# Altium footprint library STLink_V2.PcbLib: 5 footprints
Each footprint in its own frame and in the unit in brackets; x right, y up, seen from the top. Pads: shape width x height; smd on the part's side, far side on the other; paste and mask are expansions set on the pad; w line width, h text height; cw(c..) or ccw(c..) is an arc to the next point about the centre after c.
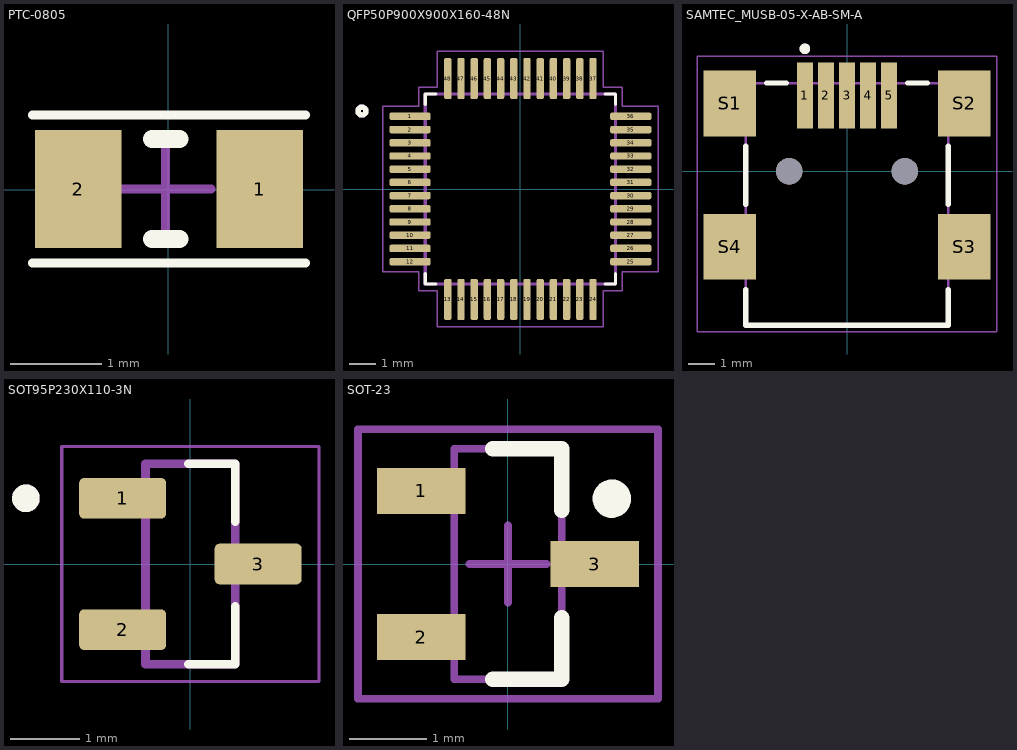
[diagram p0: the footprints below, top view; thin cyan lines are the x and y axes]

## PTC-0805 [mm]
pads (2):
  rect 0.95x1.3 smd: 1(1.008,0.009) 2(-0.992,0.009)
Top Overlay:
  lines w0.1: -1.492,-0.804 1.508,-0.804 ; -1.492,0.822 1.508,0.822
  lines w0.2: -0.18,-0.541 0.12,-0.541 ; -0.18,0.559 0.12,0.559
Mechanical 15:
  lines w0.1: -0.53,0.009 0.47,0.009 ; -0.03,-0.491 -0.03,0.509
3D body "Part2.SLDPRT": height 0.66, standoff 0, extent -1.075,-0.675 1.075,0.675

## QFP50P900X900X160-48N [mm]
pads (48):
  rrect50% 1.56x0.28 smd: 1(-4.18,2.75) 2(-4.18,2.25) 3(-4.18,1.75) 4(-4.18,1.25) 5(-4.18,0.75) 6(-4.18,0.25) 7(-4.18,-0.25) 8(-4.18,-0.75) 9(-4.18,-1.25) 10(-4.18,-1.75) 11(-4.18,-2.25) 12(-4.18,-2.75) 25(4.18,-2.75) 26(4.18,-2.25) 27(4.18,-1.75) 28(4.18,-1.25) 29(4.18,-0.75) 30(4.18,-0.25) 31(4.18,0.25) 32(4.18,0.75) 33(4.18,1.25) 34(4.18,1.75) 35(4.18,2.25) 36(4.18,2.75)
  rrect50% 0.28x1.56 smd: 13(-2.75,-4.18) 14(-2.25,-4.18) 15(-1.75,-4.18) 16(-1.25,-4.18) 17(-0.75,-4.18) 18(-0.25,-4.18) 19(0.25,-4.18) 20(0.75,-4.18) 21(1.25,-4.18) 22(1.75,-4.18) 23(2.25,-4.18) 24(2.75,-4.18) 37(2.75,4.18) 38(2.25,4.18) 39(1.75,4.18) 40(1.25,4.18) 41(0.75,4.18) 42(0.25,4.18) 43(-0.25,4.18) 44(-0.75,4.18) 45(-1.25,4.18) 46(-1.75,4.18) 47(-2.25,4.18) 48(-2.75,4.18)
Top Overlay:
  circle w0.2: c-6,2.95 r0.15
  lines w0.127: -3.6,-3.21 -3.6,-3.6 -3.21,-3.6 ; -3.6,3.21 -3.6,3.6 -3.21,3.6 ; 3.21,-3.6 3.6,-3.6 3.6,-3.21 ; 3.21,3.6 3.6,3.6 3.6,3.21
Mechanical 13:
  circle w0.2: c-6,2.95 r0.15
  lines w0.127: -3.6,-3.6 -3.6,3.6 3.6,3.6 3.6,-3.6 -3.6,-3.6
Mechanical 15:
  lines w0.05: -5.21,-3.14 -5.21,3.14 -3.85,3.14 -3.85,3.85 -3.14,3.85 -3.14,5.21 3.14,5.21 3.14,3.85 3.85,3.85 3.85,3.14 5.21,3.14 5.21,-3.14 3.85,-3.14 3.85,-3.85 3.14,-3.85 3.14,-5.21 -3.14,-5.21 -3.14,-3.85 -3.85,-3.85 -3.85,-3.14 -5.21,-3.14
3D body "step_temp.STEP": height 1.6, standoff 0, extent -4.5,-4.5 4.5,4.5

## SAMTEC_MUSB-05-X-AB-SM-A [mm]
pads (11):
  rect 0.6x2.5 smd: 1(-1.6,2.88) 2(-0.8,2.88) 3(0,2.88) 4(0.8,2.88) 5(1.6,2.88)
  rect 2x2.5 smd: S1(-4.45,2.58) S2(4.45,2.58) S3(4.45,-2.87) S4(-4.45,-2.87)
  round 1 hole 1 unplated: ""(-2.2,0) ""(2.2,0)
Top Overlay:
  circle w0.2: c-1.6,4.653 r0.1
  lines w0.2: -3.85,-4.5 -3.85,-5.85 3.85,-5.85 3.85,-4.5 ; -3.85,-1.25 -3.85,0.95 ; -3.05,3.35 -2.3,3.35 ; 2.3,3.35 3.05,3.35 ; 3.85,-1.25 3.85,0.95
Mechanical 13:
  circle w0.2: c-1.6,4.653 r0.1
  lines w0.1: -3.85,-5.85 -3.85,3.35 3.85,3.35 3.85,-5.85 -3.85,-5.85
Mechanical 15:
  lines w0.05: -5.7,-6.1 -5.7,4.38 5.7,4.38 5.7,-6.1 -5.7,-6.1
3D body "MUSB-05-F-AB-SM-A-TR.stp": height 3.98, standoff -1.02, extent -4.998,-5.817 4.998,3.683

## SOT95P230X110-3N [mm]
height 1.1
pads (3):
  rrect25% 1.26x0.59 smd: 1(-0.98,0.95) 2(-0.98,-0.95) 3(0.98,0)
Top Overlay:
  circle w0.2: c-2.38,0.95 r0.1
  lines w0.127: -0.03,-1.45 0.65,-1.45 0.65,-0.615 ; -0.03,1.45 0.65,1.45 0.65,0.615
Mechanical 13:
  circle w0.2: c-2.38,0.95 r0.1
  lines w0.127: -0.65,-1.45 -0.65,1.45 0.65,1.45 0.65,-1.45 -0.65,-1.45
Mechanical 15:
  lines w0.05: -1.86,-1.7 1.86,-1.7 1.86,1.7 -1.86,1.7 -1.86,-1.7
3D body "BC817,215.STEP": height 1.1, standoff 0, extent -1.15,-1.45 1.15,1.45

## SOT-23 [mm]
pads (3):
  rect 1.15x0.6 smd: 1(-1.125,0.95) 2(-1.125,-0.95) 3(1.125,0)
Top Overlay:
  circle w0.25: c1.35,0.85 r0.125
  lines w0.2: -0.2,-1.5 0.7,-1.5 0.7,-0.7 ; -0.2,1.5 0.7,1.5 0.7,0.7
Mechanical 13:
  lines w0.1: -0.7,-1.5 0.7,-1.5 0.7,1.5 -0.7,1.5 -0.7,-1.5
Mechanical 15:
  lines w0.1: -0.5,0 0.5,0 ; 0,-0.5 0,0.5 ; -1.95,-1.75 1.95,-1.75 1.95,1.75 -1.95,1.75 -1.95,-1.75
3D body "SOT23.STEP": height 1.2, standoff -0.02, extent -1.126,-1.5 1.126,1.5